# EAGLE library part STMICROELECTRONICS_STM32F417VET6 (library IGVC-Microcontroller)
MC-ARM-STM32F40X_41X-SQ100
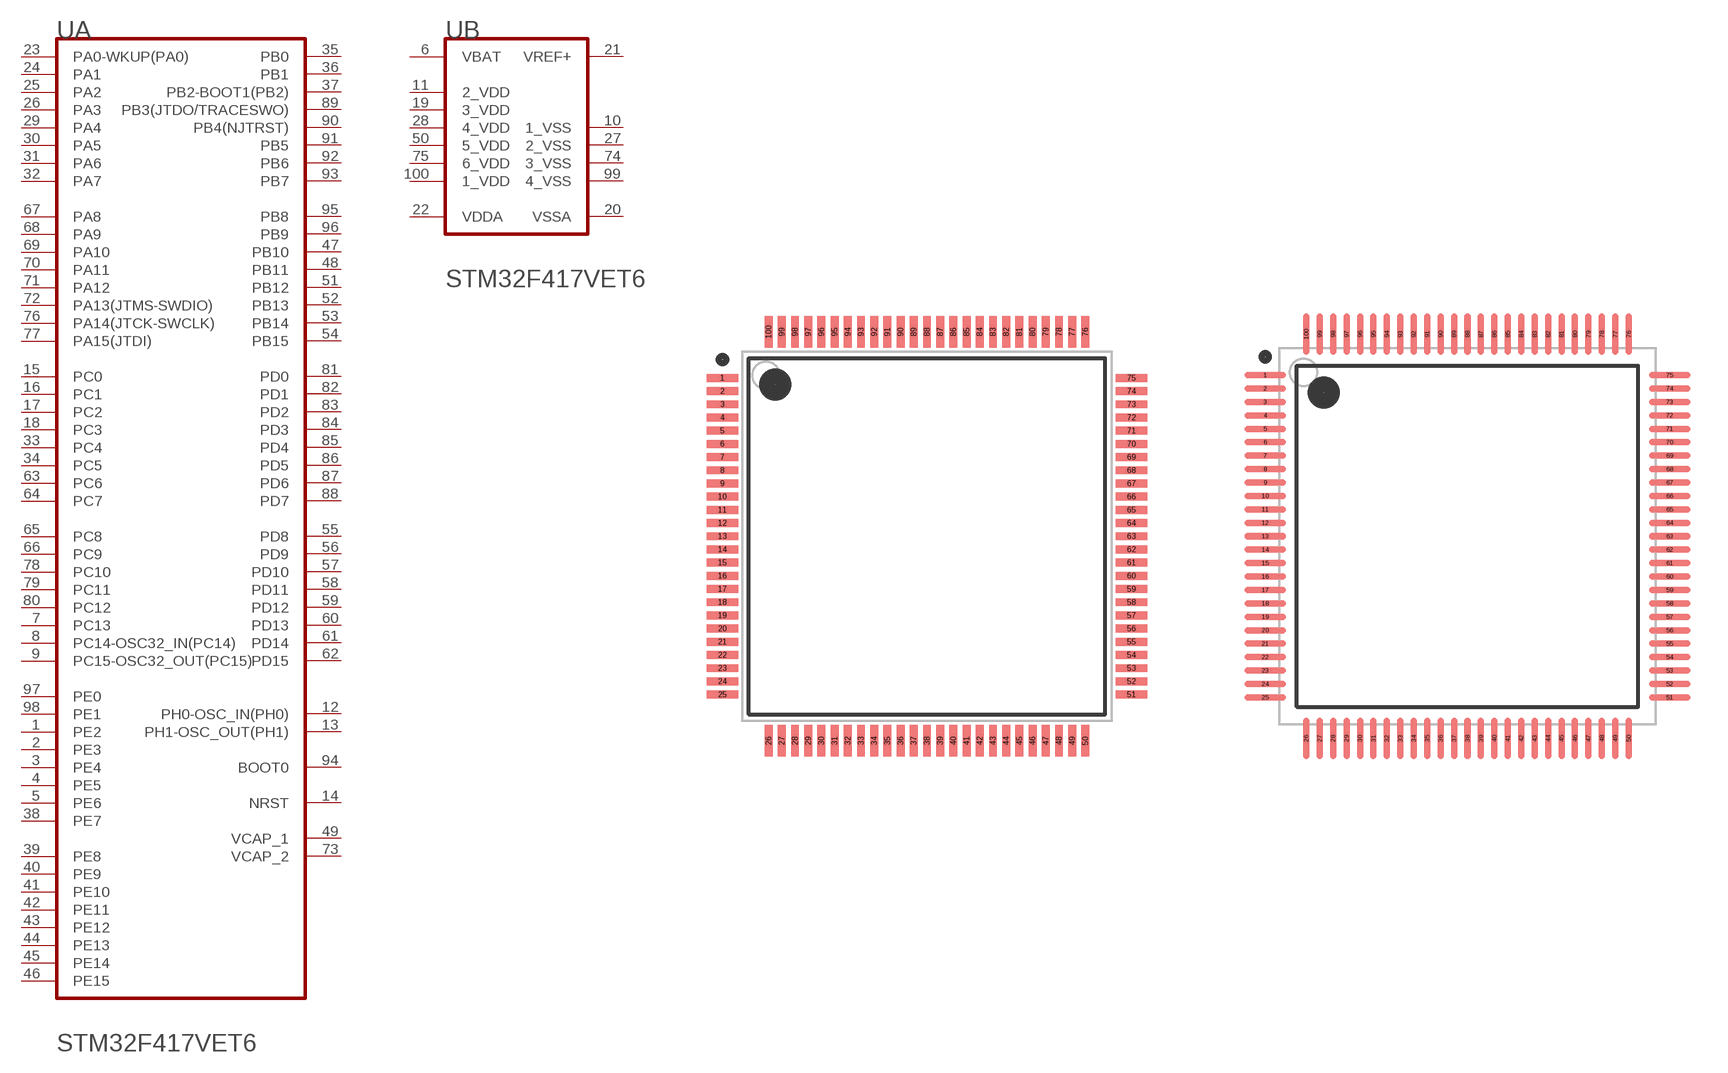
[diagram p0: symbol with the pads of STMICROELECTRONICS_STM32F417VET6_0; footprints STMICROELECTRONICS_STM32F417VET6_0, STMICROELECTRONICS_STM32F417VET6_1]

Designator prefix U; gates A=STMICROELECTRONICS_STM32F417VET6_0_0 B=STMICROELECTRONICS_STM32F417VET6_0_1

## STMICROELECTRONICS_STM32F417VET6STMICROELECTRONICS_STM32F417VET6_0_0 (CIIVA_IDS: 2954672; COMPONENT_LINK_1_DESCRIPTION: Manufacturer URL; COMPONENT_LINK_1_URL: http://www.st.com/web/en/home.html; COMPONENT_LINK_3_DESCRIPTION: Package Specification; COMPONENT_LINK_3_URL: http://www.st.com/st-web-ui/static/active/en/resource/technical/document/data_brief/DM00071938.pdf; CORE: ARM Cortex-M4; DATASHEET: http://www.st.com/st-web-ui/static/active/en/resource/technical/document/datasheet/DM00035129.pdf; DATASHEET_VERSION: Rev. 4; DA_CONVERTER: 2x12-bit; FLASH_SIZE_PROG_KB: 512; FOOTPRINT_VARIANT_NAME_0: STM-LQFP100_V; FOOTPRINT_VARIANT_NAME_1: Level C; FOOTPRINT_VARIANT_NAME_2: Level B; FOOTPRINT_VARIANT_NAME_3: Level A; IMPORTED: yes; IMPORTED_FROM: vault; IMPORT_TS: 1521846273; INTERNAL_RAM_SIZE_KB: 192; IOS_HIGH_CURRENT: 82; MF: STMicroelectronics; MOUNTING_TECHNOLOGY: Surface Mount; MPN: STM32F417VET6; OPERATING_FREQUENCYF_PROCESSOR_SPEED_MHZ: 168; PACKAGE: LQFP100; PACKAGE_DESCRIPTION: 100-Pin Low Profile Quad Flat Package, 14 x 14 mm Body, 0.5 mm Pitch; PACKAGE_VERSION: Rev. 1, 06/2013; PACKING: Tray; PREFIX: U; RELEASE_DATE: 1387196189; SUPPLY_VOLTAGEVCC_MAX_V: 3.6; SUPPLY_VOLTAGEVCC_MIN_V: 1.8; VAULT_GUID: ABB768E0-79AA-4BF0-BC28-CCD84263E406; VAULT_REVISION: 7C394E1E-0F72-4671-A649-E24D4F366D56)  [STMICROELECTRONICS_STM32F417VET6_0]
1  A:PE2
2  A:PE3
3  A:PE4
4  A:PE5
5  A:PE6
6  B:VBAT  pwr
7  A:PC13
8  A:PC14-OSC32_IN(PC14)
9  A:PC15-OSC32_OUT(PC15)
10  B:1_VSS  pwr
11  B:2_VDD  pwr
12  A:PH0-OSC_IN(PH0)
13  A:PH1-OSC_OUT(PH1)
14  A:NRST
15  A:PC0
16  A:PC1
17  A:PC2
18  A:PC3
19  B:3_VDD  pwr
20  B:VSSA  pwr
21  B:VREF+  pwr
22  B:VDDA  pwr
23  A:PA0-WKUP(PA0)
24  A:PA1
25  A:PA2
26  A:PA3
27  B:2_VSS  pwr
28  B:4_VDD  pwr
29  A:PA4
30  A:PA5
31  A:PA6
32  A:PA7
33  A:PC4
34  A:PC5
35  A:PB0
36  A:PB1
37  A:PB2-BOOT1(PB2)
38  A:PE7
39  A:PE8
40  A:PE9
41  A:PE10
42  A:PE11
43  A:PE12
44  A:PE13
45  A:PE14
46  A:PE15
47  A:PB10
48  A:PB11
49  A:VCAP_1  pwr
50  B:5_VDD  pwr
51  A:PB12
52  A:PB13
53  A:PB14
54  A:PB15
55  A:PD8
56  A:PD9
57  A:PD10
58  A:PD11
59  A:PD12
60  A:PD13
61  A:PD14
62  A:PD15
63  A:PC6
64  A:PC7
65  A:PC8
66  A:PC9
67  A:PA8
68  A:PA9
69  A:PA10
70  A:PA11
71  A:PA12
72  A:PA13(JTMS-SWDIO)
73  A:VCAP_2  pwr
74  B:3_VSS  pwr
75  B:6_VDD  pwr
76  A:PA14(JTCK-SWCLK)
77  A:PA15(JTDI)
78  A:PC10
79  A:PC11
80  A:PC12
81  A:PD0
82  A:PD1
83  A:PD2
84  A:PD3
85  A:PD4
86  A:PD5
87  A:PD6
88  A:PD7
89  A:PB3(JTDO/TRACESWO)
90  A:PB4(NJTRST)
91  A:PB5
92  A:PB6
93  A:PB7
94  A:BOOT0  in
95  A:PB8
96  A:PB9
97  A:PE0
98  A:PE1
99  B:4_VSS  pwr
100  B:1_VDD  pwr

## STMICROELECTRONICS_STM32F417VET6STMICROELECTRONICS_STM32F417VET6_0_1 (CIIVA_IDS: 2954672; COMPONENT_LINK_1_DESCRIPTION: Manufacturer URL; COMPONENT_LINK_1_URL: http://www.st.com/web/en/home.html; COMPONENT_LINK_3_DESCRIPTION: Package Specification; COMPONENT_LINK_3_URL: http://www.st.com/st-web-ui/static/active/en/resource/technical/document/data_brief/DM00071938.pdf; CORE: ARM Cortex-M4; DATASHEET: http://www.st.com/st-web-ui/static/active/en/resource/technical/document/datasheet/DM00035129.pdf; DATASHEET_VERSION: Rev. 4; DA_CONVERTER: 2x12-bit; FLASH_SIZE_PROG_KB: 512; FOOTPRINT_VARIANT_NAME_0: STM-LQFP100_V; FOOTPRINT_VARIANT_NAME_1: Level C; FOOTPRINT_VARIANT_NAME_2: Level B; FOOTPRINT_VARIANT_NAME_3: Level A; IMPORTED: yes; IMPORTED_FROM: vault; IMPORT_TS: 1521846273; INTERNAL_RAM_SIZE_KB: 192; IOS_HIGH_CURRENT: 82; MF: STMicroelectronics; MOUNTING_TECHNOLOGY: Surface Mount; MPN: STM32F417VET6; OPERATING_FREQUENCYF_PROCESSOR_SPEED_MHZ: 168; PACKAGE: LQFP100; PACKAGE_DESCRIPTION: 100-Pin Low Profile Quad Flat Package, 14 x 14 mm Body, 0.5 mm Pitch; PACKAGE_VERSION: Rev. 1, 06/2013; PACKING: Tray; PREFIX: U; RELEASE_DATE: 1387196189; SUPPLY_VOLTAGEVCC_MAX_V: 3.6; SUPPLY_VOLTAGEVCC_MIN_V: 1.8; VAULT_GUID: ABB768E0-79AA-4BF0-BC28-CCD84263E406; VAULT_REVISION: 7C394E1E-0F72-4671-A649-E24D4F366D56)  [STMICROELECTRONICS_STM32F417VET6_1]
Pads as for STMICROELECTRONICS_STM32F417VET6_0

## STMICROELECTRONICS_STM32F417VET6STMICROELECTRONICS_STM32F417VET6_0_2 (CIIVA_IDS: 2954672; COMPONENT_LINK_1_DESCRIPTION: Manufacturer URL; COMPONENT_LINK_1_URL: http://www.st.com/web/en/home.html; COMPONENT_LINK_3_DESCRIPTION: Package Specification; COMPONENT_LINK_3_URL: http://www.st.com/st-web-ui/static/active/en/resource/technical/document/data_brief/DM00071938.pdf; CORE: ARM Cortex-M4; DATASHEET: http://www.st.com/st-web-ui/static/active/en/resource/technical/document/datasheet/DM00035129.pdf; DATASHEET_VERSION: Rev. 4; DA_CONVERTER: 2x12-bit; FLASH_SIZE_PROG_KB: 512; FOOTPRINT_VARIANT_NAME_0: STM-LQFP100_V; FOOTPRINT_VARIANT_NAME_1: Level C; FOOTPRINT_VARIANT_NAME_2: Level B; FOOTPRINT_VARIANT_NAME_3: Level A; IMPORTED: yes; IMPORTED_FROM: vault; IMPORT_TS: 1521846273; INTERNAL_RAM_SIZE_KB: 192; IOS_HIGH_CURRENT: 82; MF: STMicroelectronics; MOUNTING_TECHNOLOGY: Surface Mount; MPN: STM32F417VET6; OPERATING_FREQUENCYF_PROCESSOR_SPEED_MHZ: 168; PACKAGE: LQFP100; PACKAGE_DESCRIPTION: 100-Pin Low Profile Quad Flat Package, 14 x 14 mm Body, 0.5 mm Pitch; PACKAGE_VERSION: Rev. 1, 06/2013; PACKING: Tray; PREFIX: U; RELEASE_DATE: 1387196189; SUPPLY_VOLTAGEVCC_MAX_V: 3.6; SUPPLY_VOLTAGEVCC_MIN_V: 1.8; VAULT_GUID: ABB768E0-79AA-4BF0-BC28-CCD84263E406; VAULT_REVISION: 7C394E1E-0F72-4671-A649-E24D4F366D56)  [STMICROELECTRONICS_STM32F417VET6_2]
Pads as for STMICROELECTRONICS_STM32F417VET6_0

## STMICROELECTRONICS_STM32F417VET6STMICROELECTRONICS_STM32F417VET6_0_3 (CIIVA_IDS: 2954672; COMPONENT_LINK_1_DESCRIPTION: Manufacturer URL; COMPONENT_LINK_1_URL: http://www.st.com/web/en/home.html; COMPONENT_LINK_3_DESCRIPTION: Package Specification; COMPONENT_LINK_3_URL: http://www.st.com/st-web-ui/static/active/en/resource/technical/document/data_brief/DM00071938.pdf; CORE: ARM Cortex-M4; DATASHEET: http://www.st.com/st-web-ui/static/active/en/resource/technical/document/datasheet/DM00035129.pdf; DATASHEET_VERSION: Rev. 4; DA_CONVERTER: 2x12-bit; FLASH_SIZE_PROG_KB: 512; FOOTPRINT_VARIANT_NAME_0: STM-LQFP100_V; FOOTPRINT_VARIANT_NAME_1: Level C; FOOTPRINT_VARIANT_NAME_2: Level B; FOOTPRINT_VARIANT_NAME_3: Level A; IMPORTED: yes; IMPORTED_FROM: vault; IMPORT_TS: 1521846273; INTERNAL_RAM_SIZE_KB: 192; IOS_HIGH_CURRENT: 82; MF: STMicroelectronics; MOUNTING_TECHNOLOGY: Surface Mount; MPN: STM32F417VET6; OPERATING_FREQUENCYF_PROCESSOR_SPEED_MHZ: 168; PACKAGE: LQFP100; PACKAGE_DESCRIPTION: 100-Pin Low Profile Quad Flat Package, 14 x 14 mm Body, 0.5 mm Pitch; PACKAGE_VERSION: Rev. 1, 06/2013; PACKING: Tray; PREFIX: U; RELEASE_DATE: 1387196189; SUPPLY_VOLTAGEVCC_MAX_V: 3.6; SUPPLY_VOLTAGEVCC_MIN_V: 1.8; VAULT_GUID: ABB768E0-79AA-4BF0-BC28-CCD84263E406; VAULT_REVISION: 7C394E1E-0F72-4671-A649-E24D4F366D56)  [STMICROELECTRONICS_STM32F417VET6_3]
Pads as for STMICROELECTRONICS_STM32F417VET6_0

## Footprint STMICROELECTRONICS_STM32F417VET6_0 (pad centres in mm)
MC-ARM-STM32F40X_41X-SQ100
smd 1.2 x 0.3: 1 -7.75,6; 2 -7.75,5.5; 3 -7.75,5; 4 -7.75,4.5; 5 -7.75,4; 6 -7.75,3.5; 7 -7.75,3; 8 -7.75,2.5; 9 -7.75,2; 10 -7.75,1.5; 11 -7.75,1; 12 -7.75,0.5; 13 -7.75,0; 14 -7.75,-0.5; 15 -7.75,-1; 16 -7.75,-1.5; 17 -7.75,-2; 18 -7.75,-2.5; 19 -7.75,-3; 20 -7.75,-3.5; 21 -7.75,-4; 22 -7.75,-4.5; 23 -7.75,-5; 24 -7.75,-5.5; 25 -7.75,-6; 51 7.75,-6; 52 7.75,-5.5; 53 7.75,-5; 54 7.75,-4.5; 55 7.75,-4; 56 7.75,-3.5; 57 7.75,-3; 58 7.75,-2.5; 59 7.75,-2; 60 7.75,-1.5; 61 7.75,-1; 62 7.75,-0.5; 63 7.75,0; 64 7.75,0.5; 65 7.75,1; 66 7.75,1.5; 67 7.75,2; 68 7.75,2.5; 69 7.75,3; 70 7.75,3.5; 71 7.75,4; 72 7.75,4.5; 73 7.75,5; 74 7.75,5.5; 75 7.75,6
smd 0.3 x 1.2: 26 -6,-7.75; 27 -5.5,-7.75; 28 -5,-7.75; 29 -4.5,-7.75; 30 -4,-7.75; 31 -3.5,-7.75; 32 -3,-7.75; 33 -2.5,-7.75; 34 -2,-7.75; 35 -1.5,-7.75; 36 -1,-7.75; 37 -0.5,-7.75; 38 0,-7.75; 39 0.5,-7.75; 40 1,-7.75; 41 1.5,-7.75; 42 2,-7.75; 43 2.5,-7.75; 44 3,-7.75; 45 3.5,-7.75; 46 4,-7.75; 47 4.5,-7.75; 48 5,-7.75; 49 5.5,-7.75; 50 6,-7.75; 76 6,7.75; 77 5.5,7.75; 78 5,7.75; 79 4.5,7.75; 80 4,7.75; 81 3.5,7.75; 82 3,7.75; 83 2.5,7.75; 84 2,7.75; 85 1.5,7.75; 86 1,7.75; 87 0.5,7.75; 88 0,7.75; 89 -0.5,7.75; 90 -1,7.75; 91 -1.5,7.75; 92 -2,7.75; 93 -2.5,7.75; 94 -3,7.75; 95 -3.5,7.75; 96 -4,7.75; 97 -4.5,7.75; 98 -5,7.75; 99 -5.5,7.75; 100 -6,7.75

## Footprint STMICROELECTRONICS_STM32F417VET6_1 (pad centres in mm)
MC-ARM-STM32F40X_41X-SQ100
smd 1.55 x 0.25: 1 -7.525,6; 2 -7.525,5.5; 3 -7.525,5; 4 -7.525,4.5; 5 -7.525,4; 6 -7.525,3.5; 7 -7.525,3; 8 -7.525,2.5; 9 -7.525,2; 10 -7.525,1.5; 11 -7.525,1; 12 -7.525,0.5; 13 -7.525,0; 14 -7.525,-0.5; 15 -7.525,-1; 16 -7.525,-1.5; 17 -7.525,-2; 18 -7.525,-2.5; 19 -7.525,-3; 20 -7.525,-3.5; 21 -7.525,-4; 22 -7.525,-4.5; 23 -7.525,-5; 24 -7.525,-5.5; 25 -7.525,-6; 51 7.525,-6; 52 7.525,-5.5; 53 7.525,-5; 54 7.525,-4.5; 55 7.525,-4; 56 7.525,-3.5; 57 7.525,-3; 58 7.525,-2.5; 59 7.525,-2; 60 7.525,-1.5; 61 7.525,-1; 62 7.525,-0.5; 63 7.525,0; 64 7.525,0.5; 65 7.525,1; 66 7.525,1.5; 67 7.525,2; 68 7.525,2.5; 69 7.525,3; 70 7.525,3.5; 71 7.525,4; 72 7.525,4.5; 73 7.525,5; 74 7.525,5.5; 75 7.525,6
smd 0.25 x 1.55: 26 -6,-7.525; 27 -5.5,-7.525; 28 -5,-7.525; 29 -4.5,-7.525; 30 -4,-7.525; 31 -3.5,-7.525; 32 -3,-7.525; 33 -2.5,-7.525; 34 -2,-7.525; 35 -1.5,-7.525; 36 -1,-7.525; 37 -0.5,-7.525; 38 0,-7.525; 39 0.5,-7.525; 40 1,-7.525; 41 1.5,-7.525; 42 2,-7.525; 43 2.5,-7.525; 44 3,-7.525; 45 3.5,-7.525; 46 4,-7.525; 47 4.5,-7.525; 48 5,-7.525; 49 5.5,-7.525; 50 6,-7.525; 76 6,7.525; 77 5.5,7.525; 78 5,7.525; 79 4.5,7.525; 80 4,7.525; 81 3.5,7.525; 82 3,7.525; 83 2.5,7.525; 84 2,7.525; 85 1.5,7.525; 86 1,7.525; 87 0.5,7.525; 88 0,7.525; 89 -0.5,7.525; 90 -1,7.525; 91 -1.5,7.525; 92 -2,7.525; 93 -2.5,7.525; 94 -3,7.525; 95 -3.5,7.525; 96 -4,7.525; 97 -4.5,7.525; 98 -5,7.525; 99 -5.5,7.525; 100 -6,7.525

## Footprint STMICROELECTRONICS_STM32F417VET6_2 (pad centres in mm)
MC-ARM-STM32F40X_41X-SQ100
smd 1.8 x 0.3: 1 -7.55,6; 2 -7.55,5.5; 3 -7.55,5; 4 -7.55,4.5; 5 -7.55,4; 6 -7.55,3.5; 7 -7.55,3; 8 -7.55,2.5; 9 -7.55,2; 10 -7.55,1.5; 11 -7.55,1; 12 -7.55,0.5; 13 -7.55,0; 14 -7.55,-0.5; 15 -7.55,-1; 16 -7.55,-1.5; 17 -7.55,-2; 18 -7.55,-2.5; 19 -7.55,-3; 20 -7.55,-3.5; 21 -7.55,-4; 22 -7.55,-4.5; 23 -7.55,-5; 24 -7.55,-5.5; 25 -7.55,-6; 51 7.55,-6; 52 7.55,-5.5; 53 7.55,-5; 54 7.55,-4.5; 55 7.55,-4; 56 7.55,-3.5; 57 7.55,-3; 58 7.55,-2.5; 59 7.55,-2; 60 7.55,-1.5; 61 7.55,-1; 62 7.55,-0.5; 63 7.55,0; 64 7.55,0.5; 65 7.55,1; 66 7.55,1.5; 67 7.55,2; 68 7.55,2.5; 69 7.55,3; 70 7.55,3.5; 71 7.55,4; 72 7.55,4.5; 73 7.55,5; 74 7.55,5.5; 75 7.55,6
smd 0.3 x 1.8: 26 -6,-7.55; 27 -5.5,-7.55; 28 -5,-7.55; 29 -4.5,-7.55; 30 -4,-7.55; 31 -3.5,-7.55; 32 -3,-7.55; 33 -2.5,-7.55; 34 -2,-7.55; 35 -1.5,-7.55; 36 -1,-7.55; 37 -0.5,-7.55; 38 0,-7.55; 39 0.5,-7.55; 40 1,-7.55; 41 1.5,-7.55; 42 2,-7.55; 43 2.5,-7.55; 44 3,-7.55; 45 3.5,-7.55; 46 4,-7.55; 47 4.5,-7.55; 48 5,-7.55; 49 5.5,-7.55; 50 6,-7.55; 76 6,7.55; 77 5.5,7.55; 78 5,7.55; 79 4.5,7.55; 80 4,7.55; 81 3.5,7.55; 82 3,7.55; 83 2.5,7.55; 84 2,7.55; 85 1.5,7.55; 86 1,7.55; 87 0.5,7.55; 88 0,7.55; 89 -0.5,7.55; 90 -1,7.55; 91 -1.5,7.55; 92 -2,7.55; 93 -2.5,7.55; 94 -3,7.55; 95 -3.5,7.55; 96 -4,7.55; 97 -4.5,7.55; 98 -5,7.55; 99 -5.5,7.55; 100 -6,7.55

## Footprint STMICROELECTRONICS_STM32F417VET6_3 (pad centres in mm)
MC-ARM-STM32F40X_41X-SQ100
smd 2.1 x 0.3: 1 -7.6,6; 2 -7.6,5.5; 3 -7.6,5; 4 -7.6,4.5; 5 -7.6,4; 6 -7.6,3.5; 7 -7.6,3; 8 -7.6,2.5; 9 -7.6,2; 10 -7.6,1.5; 11 -7.6,1; 12 -7.6,0.5; 13 -7.6,0; 14 -7.6,-0.5; 15 -7.6,-1; 16 -7.6,-1.5; 17 -7.6,-2; 18 -7.6,-2.5; 19 -7.6,-3; 20 -7.6,-3.5; 21 -7.6,-4; 22 -7.6,-4.5; 23 -7.6,-5; 24 -7.6,-5.5; 25 -7.6,-6; 51 7.6,-6; 52 7.6,-5.5; 53 7.6,-5; 54 7.6,-4.5; 55 7.6,-4; 56 7.6,-3.5; 57 7.6,-3; 58 7.6,-2.5; 59 7.6,-2; 60 7.6,-1.5; 61 7.6,-1; 62 7.6,-0.5; 63 7.6,0; 64 7.6,0.5; 65 7.6,1; 66 7.6,1.5; 67 7.6,2; 68 7.6,2.5; 69 7.6,3; 70 7.6,3.5; 71 7.6,4; 72 7.6,4.5; 73 7.6,5; 74 7.6,5.5; 75 7.6,6
smd 0.3 x 2.1: 26 -6,-7.6; 27 -5.5,-7.6; 28 -5,-7.6; 29 -4.5,-7.6; 30 -4,-7.6; 31 -3.5,-7.6; 32 -3,-7.6; 33 -2.5,-7.6; 34 -2,-7.6; 35 -1.5,-7.6; 36 -1,-7.6; 37 -0.5,-7.6; 38 0,-7.6; 39 0.5,-7.6; 40 1,-7.6; 41 1.5,-7.6; 42 2,-7.6; 43 2.5,-7.6; 44 3,-7.6; 45 3.5,-7.6; 46 4,-7.6; 47 4.5,-7.6; 48 5,-7.6; 49 5.5,-7.6; 50 6,-7.6; 76 6,7.6; 77 5.5,7.6; 78 5,7.6; 79 4.5,7.6; 80 4,7.6; 81 3.5,7.6; 82 3,7.6; 83 2.5,7.6; 84 2,7.6; 85 1.5,7.6; 86 1,7.6; 87 0.5,7.6; 88 0,7.6; 89 -0.5,7.6; 90 -1,7.6; 91 -1.5,7.6; 92 -2,7.6; 93 -2.5,7.6; 94 -3,7.6; 95 -3.5,7.6; 96 -4,7.6; 97 -4.5,7.6; 98 -5,7.6; 99 -5.5,7.6; 100 -6,7.6